# EAGLE library part L5970D (library omcPwrSupply)
STMicroelectronics - L5970D - Up to 1A step down switching regulator Up to 1A output current Operating input voltage from 4.4V to 36V 3.3V / (±2%) reference voltage Output voltage adjustable from 1.2V to 35V Low dropout operation: 100% duty cycle 250KHz Internally fixed frequency Voltage feedforward Zero load current operation Internal current limiting Inhibit for zero current consumption Synchronization Protection against feedback disconnection Thermal shutdown STM Datasheet <http://www.st.com/web/en/resource/technical/document/datasheet/CD00002173.pdf> Reichelt Datasheet <http://cdn-reichelt.de/documents/datenblatt/A200/DS_5970D.pdf>
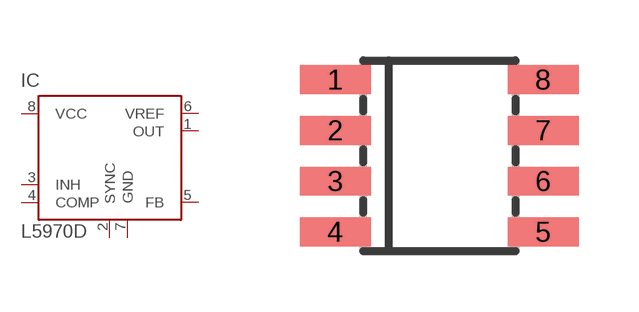
[diagram p5: symbol with the pads of SOIC08; footprint SOIC08]

Designator prefix IC

## L5970D (DIST#CONRAD#: 1185187 - 62; DIST#REICHELT#: L 5970 D; VALUE: L5970D; VENDOR#: STM,L5970D013TR)  [SOIC08]
1  OUT  out
2  SYNC  pas
3  INH  pas
4  COMP
5  FB  pas
6  VREF  out
7  GND  pwr
8  VCC  pwr

## Footprint SOIC08 (pad centres in mm)
SOIC08 SOIC-8 SMD 5mm×6.2mm Wikipedia <https://en.wikipedia.org/wiki/Small_Outline_Integrated_Circuit>
smd 1.78 x 0.72: 1 -2.6,1.905; 2 -2.6,0.635; 3 -2.6,-0.635; 4 -2.6,-1.905; 5 2.6,-1.905; 6 2.6,-0.635; 7 2.6,0.635; 8 2.6,1.905